# Altium integrated library MS5611-01BA03.IntLib: 1 symbol
Pins are listed as number, name and electrical type; pins without a type are passive.

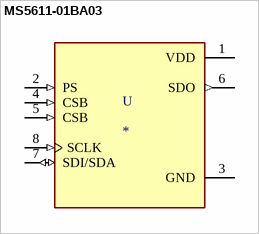
[diagram p0: symbol MS5611-01BA03]

## MS5611-01BA03
designator U
Pressure Sensor 0.15PSI ~ 17.4PSI _1kPa ~ 120kPa_ Absolute 24 b 8-SMD; MP: MS5611-01BA03; MF: TE Connectivity; TE_purchase_URL: https://www.te.com/usa-en/product-MS5611-01BA03.html?te_bu=Cor&te_type=disp&te_campaign=seda_glo_cor-seda-global-disp-prtnr-fy19-seda-model-bom-cta_sma-317_1&elqCampaignId=32493; SnapEDA_Link: https://www.snapeda.com/parts/MS5611-01BA03/TE%20Connectivity%20ALCOSWITCH%20Switches/view-part/2889268/?ref=snap; Availability: Unavailable; Value: *; Price: None; Package: SMD-8 TE Connectivity
footprint SON125P500X300X100-8N
pins: 1 VDD (power), 2 PS (in), 3 GND (power), 4 CSB (in), 5 CSB (in), 6 SDO (out), 7 SDI/SDA (io), 8 SCLK (in)